# Altium footprint library IPC-7355 QFP_Shrink_Rect_40P_Side_L.PcbLib: 12 footprints
Each footprint in its own frame and in the unit in brackets; x right, y up, seen from the top. Pads: shape width x height; smd on the part's side, far side on the other; paste and mask are expansions set on the pad; w line width, h text height; cw(c..) or ccw(c..) is an arc to the next point about the centre after c.
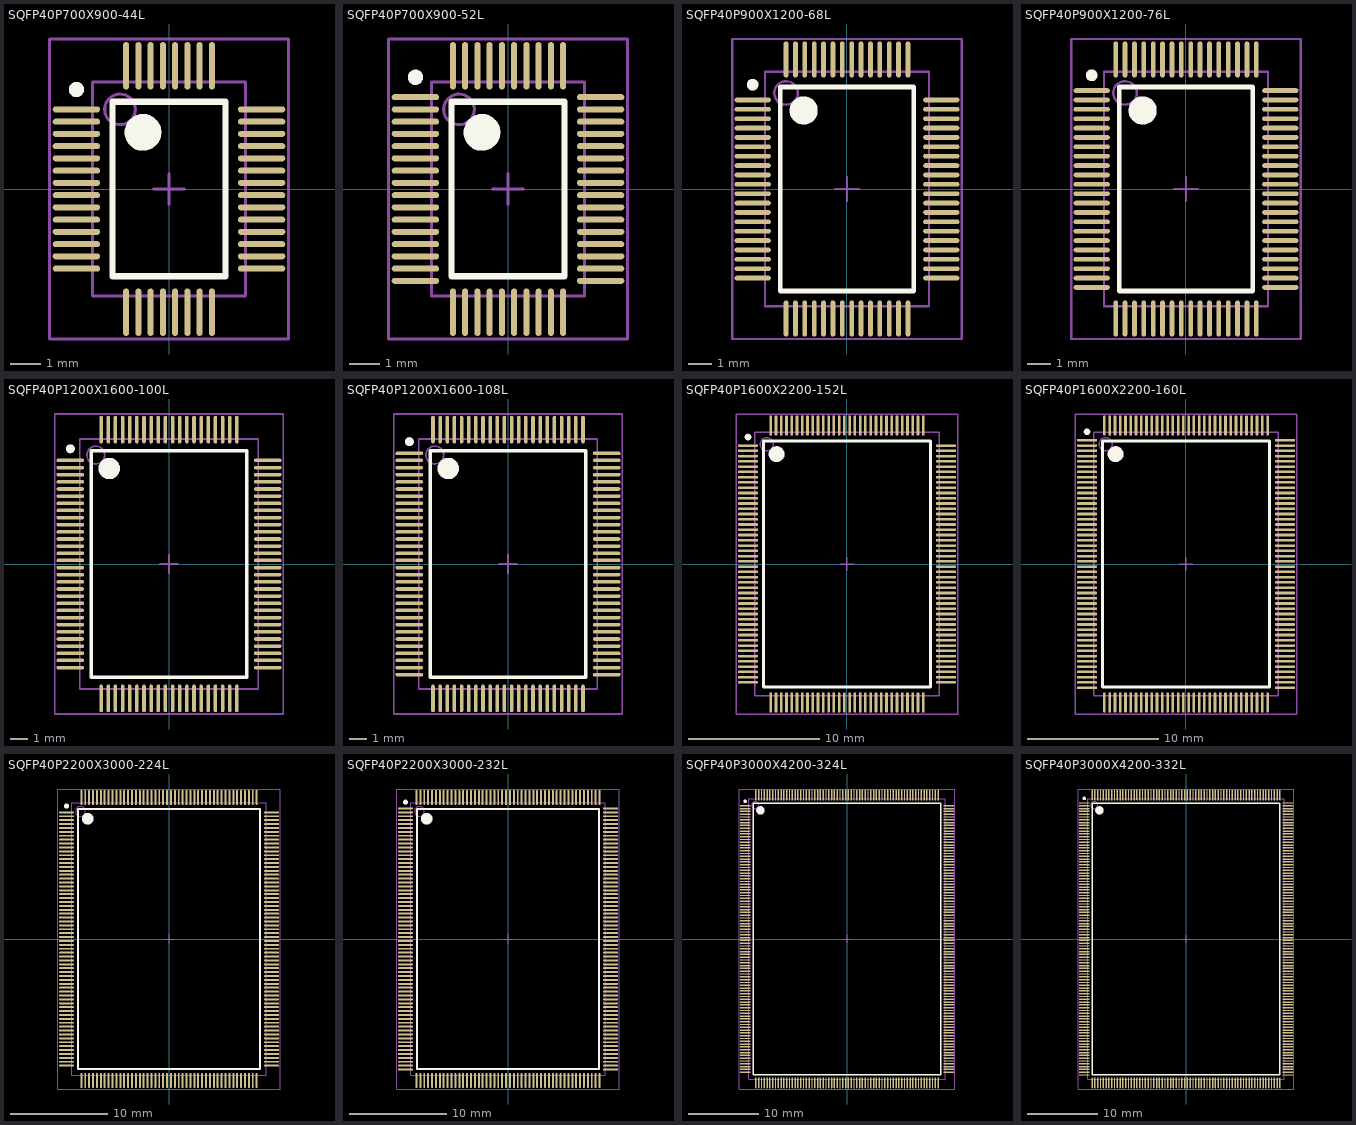
[diagram p0: the footprints below, top view; thin cyan lines are the x and y axes]

## SQFP40P700X900-44L [mm] "Shrink QFP, 44-Leads, Body 7x5 mm, Pitch 0.4mm, IPC High Density"
height 1.7
pads (44):
  oval 1.55x0.2 smd: 1(-3.025,2.6) 2(-3.025,2.2) 3(-3.025,1.8) 4(-3.025,1.4) 5(-3.025,1) 6(-3.025,0.6) 7(-3.025,0.2) 8(-3.025,-0.2) 9(-3.025,-0.6) 10(-3.025,-1) 11(-3.025,-1.4) 12(-3.025,-1.8) 13(-3.025,-2.2) 14(-3.025,-2.6) 23(3.025,-2.6) 24(3.025,-2.2) 25(3.025,-1.8) 26(3.025,-1.4) 27(3.025,-1) 28(3.025,-0.6) 29(3.025,-0.2) 30(3.025,0.2) 31(3.025,0.6) 32(3.025,1) 33(3.025,1.4) 34(3.025,1.8) 35(3.025,2.2) 36(3.025,2.6)
  oval 0.2x1.55 smd: 15(-1.4,-4.025) 16(-1,-4.025) 17(-0.6,-4.025) 18(-0.2,-4.025) 19(0.2,-4.025) 20(0.6,-4.025) 21(1,-4.025) 22(1.4,-4.025) 37(1.4,4.025) 38(1,4.025) 39(0.6,4.025) 40(0.2,4.025) 41(-0.2,4.025) 42(-0.6,4.025) 43(-1,4.025) 44(-1.4,4.025)
Top Overlay:
  circle w0.6: c-0.85,1.85 r0.3
  circle w0.25: c-3.025,3.25 r0.125
  lines w0.2: -1.85,-2.85 1.85,-2.85 1.85,2.85 -1.85,2.85 -1.85,-2.85
Mechanical 13:
  circle w0.1: c-1.6,2.6 r0.5
  lines w0.1: -2.5,-3.5 2.5,-3.5 2.5,3.5 -2.5,3.5 -2.5,-3.5
Mechanical 15:
  lines w0.1: -0.5,0 0.5,0 ; 0,-0.5 0,0.5 ; -3.9,-4.9 3.9,-4.9 3.9,4.9 -3.9,4.9 -3.9,-4.9
3D body: height 1.7, standoff 0, extent -2.5,-3.5 2.5,3.5

## SQFP40P700X900-52L [mm] "Shrink QFP, 52-Leads, Body 7x5 mm, Pitch 0.4mm, IPC High Density"
height 1.7
pads (52):
  oval 1.55x0.2 smd: 1(-3.025,3) 2(-3.025,2.6) 3(-3.025,2.2) 4(-3.025,1.8) 5(-3.025,1.4) 6(-3.025,1) 7(-3.025,0.6) 8(-3.025,0.2) 9(-3.025,-0.2) 10(-3.025,-0.6) 11(-3.025,-1) 12(-3.025,-1.4) 13(-3.025,-1.8) 14(-3.025,-2.2) 15(-3.025,-2.6) 16(-3.025,-3) 27(3.025,-3) 28(3.025,-2.6) 29(3.025,-2.2) 30(3.025,-1.8) 31(3.025,-1.4) 32(3.025,-1) 33(3.025,-0.6) 34(3.025,-0.2) 35(3.025,0.2) 36(3.025,0.6) 37(3.025,1) 38(3.025,1.4) 39(3.025,1.8) 40(3.025,2.2) 41(3.025,2.6) 42(3.025,3)
  oval 0.2x1.55 smd: 17(-1.8,-4.025) 18(-1.4,-4.025) 19(-1,-4.025) 20(-0.6,-4.025) 21(-0.2,-4.025) 22(0.2,-4.025) 23(0.6,-4.025) 24(1,-4.025) 25(1.4,-4.025) 26(1.8,-4.025) 43(1.8,4.025) 44(1.4,4.025) 45(1,4.025) 46(0.6,4.025) 47(0.2,4.025) 48(-0.2,4.025) 49(-0.6,4.025) 50(-1,4.025) 51(-1.4,4.025) 52(-1.8,4.025)
Top Overlay:
  circle w0.6: c-0.85,1.85 r0.3
  circle w0.25: c-3.025,3.65 r0.125
  lines w0.2: -1.85,-2.85 1.85,-2.85 1.85,2.85 -1.85,2.85 -1.85,-2.85
Mechanical 13:
  circle w0.1: c-1.6,2.6 r0.5
  lines w0.1: -2.5,-3.5 2.5,-3.5 2.5,3.5 -2.5,3.5 -2.5,-3.5
Mechanical 15:
  lines w0.1: -0.5,0 0.5,0 ; 0,-0.5 0,0.5 ; -3.9,-4.9 3.9,-4.9 3.9,4.9 -3.9,4.9 -3.9,-4.9
3D body: height 1.7, standoff 0, extent -2.5,-3.5 2.5,3.5

## SQFP40P900X1200-68L [mm] "Shrink QFP, 68-Leads, Body 10x7 mm, Pitch 0.4mm, IPC High Density"
height 2.2
pads (68):
  oval 1.55x0.2 smd: 1(-4.025,3.8) 2(-4.025,3.4) 3(-4.025,3) 4(-4.025,2.6) 5(-4.025,2.2) 6(-4.025,1.8) 7(-4.025,1.4) 8(-4.025,1) 9(-4.025,0.6) 10(-4.025,0.2) 11(-4.025,-0.2) 12(-4.025,-0.6) 13(-4.025,-1) 14(-4.025,-1.4) 15(-4.025,-1.8) 16(-4.025,-2.2) 17(-4.025,-2.6) 18(-4.025,-3) 19(-4.025,-3.4) 20(-4.025,-3.8) 35(4.025,-3.8) 36(4.025,-3.4) 37(4.025,-3) 38(4.025,-2.6) 39(4.025,-2.2) 40(4.025,-1.8) 41(4.025,-1.4) 42(4.025,-1) 43(4.025,-0.6) 44(4.025,-0.2) 45(4.025,0.2) 46(4.025,0.6) 47(4.025,1) 48(4.025,1.4) 49(4.025,1.8) 50(4.025,2.2) 51(4.025,2.6) 52(4.025,3) 53(4.025,3.4) 54(4.025,3.8)
  oval 0.2x1.55 smd: 21(-2.6,-5.525) 22(-2.2,-5.525) 23(-1.8,-5.525) 24(-1.4,-5.525) 25(-1,-5.525) 26(-0.6,-5.525) 27(-0.2,-5.525) 28(0.2,-5.525) 29(0.6,-5.525) 30(1,-5.525) 31(1.4,-5.525) 32(1.8,-5.525) 33(2.2,-5.525) 34(2.6,-5.525) 55(2.6,5.525) 56(2.2,5.525) 57(1.8,5.525) 58(1.4,5.525) 59(1,5.525) 60(0.6,5.525) 61(0.2,5.525) 62(-0.2,5.525) 63(-0.6,5.525) 64(-1,5.525) 65(-1.4,5.525) 66(-1.8,5.525) 67(-2.2,5.525) 68(-2.6,5.525)
Top Overlay:
  circle w0.6: c-1.85,3.35 r0.3
  circle w0.25: c-4.025,4.45 r0.125
  lines w0.2: -2.85,-4.35 2.85,-4.35 2.85,4.35 -2.85,4.35 -2.85,-4.35
Mechanical 13:
  circle w0.1: c-2.6,4.1 r0.5
  lines w0.1: -3.5,-5 3.5,-5 3.5,5 -3.5,5 -3.5,-5
Mechanical 15:
  lines w0.1: -0.5,0 0.5,0 ; 0,-0.5 0,0.5 ; -4.9,-6.4 4.9,-6.4 4.9,6.4 -4.9,6.4 -4.9,-6.4
3D body: height 2.2, standoff 0, extent -3.5,-5 3.5,5

## SQFP40P900X1200-76L [mm] "Shrink QFP, 76-Leads, Body 10x7 mm, Pitch 0.4mm, IPC High Density"
height 2.2
pads (76):
  oval 1.55x0.2 smd: 1(-4.025,4.2) 2(-4.025,3.8) 3(-4.025,3.4) 4(-4.025,3) 5(-4.025,2.6) 6(-4.025,2.2) 7(-4.025,1.8) 8(-4.025,1.4) 9(-4.025,1) 10(-4.025,0.6) 11(-4.025,0.2) 12(-4.025,-0.2) 13(-4.025,-0.6) 14(-4.025,-1) 15(-4.025,-1.4) 16(-4.025,-1.8) 17(-4.025,-2.2) 18(-4.025,-2.6) 19(-4.025,-3) 20(-4.025,-3.4) 21(-4.025,-3.8) 22(-4.025,-4.2) 39(4.025,-4.2) 40(4.025,-3.8) 41(4.025,-3.4) 42(4.025,-3) 43(4.025,-2.6) 44(4.025,-2.2) 45(4.025,-1.8) 46(4.025,-1.4) 47(4.025,-1) 48(4.025,-0.6) 49(4.025,-0.2) 50(4.025,0.2) 51(4.025,0.6) 52(4.025,1) 53(4.025,1.4) 54(4.025,1.8) 55(4.025,2.2) 56(4.025,2.6) 57(4.025,3) 58(4.025,3.4) 59(4.025,3.8) 60(4.025,4.2)
  oval 0.2x1.55 smd: 23(-3,-5.525) 24(-2.6,-5.525) 25(-2.2,-5.525) 26(-1.8,-5.525) 27(-1.4,-5.525) 28(-1,-5.525) 29(-0.6,-5.525) 30(-0.2,-5.525) 31(0.2,-5.525) 32(0.6,-5.525) 33(1,-5.525) 34(1.4,-5.525) 35(1.8,-5.525) 36(2.2,-5.525) 37(2.6,-5.525) 38(3,-5.525) 61(3,5.525) 62(2.6,5.525) 63(2.2,5.525) 64(1.8,5.525) 65(1.4,5.525) 66(1,5.525) 67(0.6,5.525) 68(0.2,5.525) 69(-0.2,5.525) 70(-0.6,5.525) 71(-1,5.525) 72(-1.4,5.525) 73(-1.8,5.525) 74(-2.2,5.525) 75(-2.6,5.525) 76(-3,5.525)
Top Overlay:
  circle w0.6: c-1.85,3.35 r0.3
  circle w0.25: c-4.025,4.85 r0.125
  lines w0.2: -2.85,-4.35 2.85,-4.35 2.85,4.35 -2.85,4.35 -2.85,-4.35
Mechanical 13:
  circle w0.1: c-2.6,4.1 r0.5
  lines w0.1: -3.5,-5 3.5,-5 3.5,5 -3.5,5 -3.5,-5
Mechanical 15:
  lines w0.1: -0.5,0 0.5,0 ; 0,-0.5 0,0.5 ; -4.9,-6.4 4.9,-6.4 4.9,6.4 -4.9,6.4 -4.9,-6.4
3D body: height 2.2, standoff 0, extent -3.5,-5 3.5,5

## SQFP40P1200X1600-100L [mm] "Shrink QFP, 100-Leads, Body 14x10 mm, Pitch 0.4mm, IPC High Density"
height 2.2
pads (100):
  oval 1.55x0.2 smd: 1(-5.525,5.8) 2(-5.525,5.4) 3(-5.525,5) 4(-5.525,4.6) 5(-5.525,4.2) 6(-5.525,3.8) 7(-5.525,3.4) 8(-5.525,3) 9(-5.525,2.6) 10(-5.525,2.2) 11(-5.525,1.8) 12(-5.525,1.4) 13(-5.525,1) 14(-5.525,0.6) 15(-5.525,0.2) 16(-5.525,-0.2) 17(-5.525,-0.6) 18(-5.525,-1) 19(-5.525,-1.4) 20(-5.525,-1.8) 21(-5.525,-2.2) 22(-5.525,-2.6) 23(-5.525,-3) 24(-5.525,-3.4) 25(-5.525,-3.8) 26(-5.525,-4.2) 27(-5.525,-4.6) 28(-5.525,-5) 29(-5.525,-5.4) 30(-5.525,-5.8) 51(5.525,-5.8) 52(5.525,-5.4) 53(5.525,-5) 54(5.525,-4.6) 55(5.525,-4.2) 56(5.525,-3.8) 57(5.525,-3.4) 58(5.525,-3) 59(5.525,-2.6) 60(5.525,-2.2) 61(5.525,-1.8) 62(5.525,-1.4) 63(5.525,-1) 64(5.525,-0.6) 65(5.525,-0.2) 66(5.525,0.2) 67(5.525,0.6) 68(5.525,1) 69(5.525,1.4) 70(5.525,1.8) 71(5.525,2.2) 72(5.525,2.6) 73(5.525,3) 74(5.525,3.4) 75(5.525,3.8) 76(5.525,4.2) 77(5.525,4.6) 78(5.525,5) 79(5.525,5.4) 80(5.525,5.8)
  oval 0.2x1.55 smd: 31(-3.8,-7.525) 32(-3.4,-7.525) 33(-3,-7.525) 34(-2.6,-7.525) 35(-2.2,-7.525) 36(-1.8,-7.525) 37(-1.4,-7.525) 38(-1,-7.525) 39(-0.6,-7.525) 40(-0.2,-7.525) 41(0.2,-7.525) 42(0.6,-7.525) 43(1,-7.525) 44(1.4,-7.525) 45(1.8,-7.525) 46(2.2,-7.525) 47(2.6,-7.525) 48(3,-7.525) 49(3.4,-7.525) 50(3.8,-7.525) 81(3.8,7.525) 82(3.4,7.525) 83(3,7.525) 84(2.6,7.525) 85(2.2,7.525) 86(1.8,7.525) 87(1.4,7.525) 88(1,7.525) 89(0.6,7.525) 90(0.2,7.525) 91(-0.2,7.525) 92(-0.6,7.525) 93(-1,7.525) 94(-1.4,7.525) 95(-1.8,7.525) 96(-2.2,7.525) 97(-2.6,7.525) 98(-3,7.525) 99(-3.4,7.525) 100(-3.8,7.525)
Top Overlay:
  circle w0.6: c-3.35,5.35 r0.3
  circle w0.25: c-5.525,6.45 r0.125
  lines w0.2: -4.35,-6.35 4.35,-6.35 4.35,6.35 -4.35,6.35 -4.35,-6.35
Mechanical 13:
  circle w0.1: c-4.1,6.1 r0.5
  lines w0.1: -5,-7 5,-7 5,7 -5,7 -5,-7
Mechanical 15:
  lines w0.1: -0.5,0 0.5,0 ; 0,-0.5 0,0.5 ; -6.4,-8.4 6.4,-8.4 6.4,8.4 -6.4,8.4 -6.4,-8.4
3D body: height 2.2, standoff 0, extent -5,-7 5,7

## SQFP40P1200X1600-108L [mm] "Shrink QFP, 108-Leads, Body 14x10 mm, Pitch 0.4mm, IPC High Density"
height 2.2
pads (108):
  oval 1.55x0.2 smd: 1(-5.525,6.2) 2(-5.525,5.8) 3(-5.525,5.4) 4(-5.525,5) 5(-5.525,4.6) 6(-5.525,4.2) 7(-5.525,3.8) 8(-5.525,3.4) 9(-5.525,3) 10(-5.525,2.6) 11(-5.525,2.2) 12(-5.525,1.8) 13(-5.525,1.4) 14(-5.525,1) 15(-5.525,0.6) 16(-5.525,0.2) 17(-5.525,-0.2) 18(-5.525,-0.6) 19(-5.525,-1) 20(-5.525,-1.4) 21(-5.525,-1.8) 22(-5.525,-2.2) 23(-5.525,-2.6) 24(-5.525,-3) 25(-5.525,-3.4) 26(-5.525,-3.8) 27(-5.525,-4.2) 28(-5.525,-4.6) 29(-5.525,-5) 30(-5.525,-5.4) 31(-5.525,-5.8) 32(-5.525,-6.2) 55(5.525,-6.2) 56(5.525,-5.8) 57(5.525,-5.4) 58(5.525,-5) 59(5.525,-4.6) 60(5.525,-4.2) 61(5.525,-3.8) 62(5.525,-3.4) 63(5.525,-3) 64(5.525,-2.6) 65(5.525,-2.2) 66(5.525,-1.8) 67(5.525,-1.4) 68(5.525,-1) 69(5.525,-0.6) 70(5.525,-0.2) 71(5.525,0.2) 72(5.525,0.6) 73(5.525,1) 74(5.525,1.4) 75(5.525,1.8) 76(5.525,2.2) 77(5.525,2.6) 78(5.525,3) 79(5.525,3.4) 80(5.525,3.8) 81(5.525,4.2) 82(5.525,4.6) 83(5.525,5) 84(5.525,5.4) 85(5.525,5.8) 86(5.525,6.2)
  oval 0.2x1.55 smd: 33(-4.2,-7.525) 34(-3.8,-7.525) 35(-3.4,-7.525) 36(-3,-7.525) 37(-2.6,-7.525) 38(-2.2,-7.525) 39(-1.8,-7.525) 40(-1.4,-7.525) 41(-1,-7.525) 42(-0.6,-7.525) 43(-0.2,-7.525) 44(0.2,-7.525) 45(0.6,-7.525) 46(1,-7.525) 47(1.4,-7.525) 48(1.8,-7.525) 49(2.2,-7.525) 50(2.6,-7.525) 51(3,-7.525) 52(3.4,-7.525) 53(3.8,-7.525) 54(4.2,-7.525) 87(4.2,7.525) 88(3.8,7.525) 89(3.4,7.525) 90(3,7.525) 91(2.6,7.525) 92(2.2,7.525) 93(1.8,7.525) 94(1.4,7.525) 95(1,7.525) 96(0.6,7.525) 97(0.2,7.525) 98(-0.2,7.525) 99(-0.6,7.525) 100(-1,7.525) 101(-1.4,7.525) 102(-1.8,7.525) 103(-2.2,7.525) 104(-2.6,7.525) 105(-3,7.525) 106(-3.4,7.525) 107(-3.8,7.525) 108(-4.2,7.525)
Top Overlay:
  circle w0.6: c-3.35,5.35 r0.3
  circle w0.25: c-5.525,6.85 r0.125
  lines w0.2: -4.35,-6.35 4.35,-6.35 4.35,6.35 -4.35,6.35 -4.35,-6.35
Mechanical 13:
  circle w0.1: c-4.1,6.1 r0.5
  lines w0.1: -5,-7 5,-7 5,7 -5,7 -5,-7
Mechanical 15:
  lines w0.1: -0.5,0 0.5,0 ; 0,-0.5 0,0.5 ; -6.4,-8.4 6.4,-8.4 6.4,8.4 -6.4,8.4 -6.4,-8.4
3D body: height 2.2, standoff 0, extent -5,-7 5,7

## SQFP40P1600X2200-152L [mm] "Shrink QFP, 152-Leads, Body 20x14 mm, Pitch 0.4mm, IPC High Density"
height 2.2
pads (152):
  oval 1.55x0.2 smd: 1(-7.525,9) 2(-7.525,8.6) 3(-7.525,8.2) 4(-7.525,7.8) 5(-7.525,7.4) 6(-7.525,7) 7(-7.525,6.6) 8(-7.525,6.2) 9(-7.525,5.8) 10(-7.525,5.4) 11(-7.525,5) 12(-7.525,4.6) 13(-7.525,4.2) 14(-7.525,3.8) 15(-7.525,3.4) 16(-7.525,3) 17(-7.525,2.6) 18(-7.525,2.2) 19(-7.525,1.8) 20(-7.525,1.4) 21(-7.525,1) 22(-7.525,0.6) 23(-7.525,0.2) 24(-7.525,-0.2) 25(-7.525,-0.6) 26(-7.525,-1) 27(-7.525,-1.4) 28(-7.525,-1.8) 29(-7.525,-2.2) 30(-7.525,-2.6) 31(-7.525,-3) 32(-7.525,-3.4) 33(-7.525,-3.8) 34(-7.525,-4.2) 35(-7.525,-4.6) 36(-7.525,-5) 37(-7.525,-5.4) 38(-7.525,-5.8) 39(-7.525,-6.2) 40(-7.525,-6.6) 41(-7.525,-7) 42(-7.525,-7.4) 43(-7.525,-7.8) 44(-7.525,-8.2) 45(-7.525,-8.6) 46(-7.525,-9) 77(7.525,-9) 78(7.525,-8.6) 79(7.525,-8.2) 80(7.525,-7.8) 81(7.525,-7.4) 82(7.525,-7) 83(7.525,-6.6) 84(7.525,-6.2) 85(7.525,-5.8) 86(7.525,-5.4) 87(7.525,-5) 88(7.525,-4.6) 89(7.525,-4.2) 90(7.525,-3.8) 91(7.525,-3.4) 92(7.525,-3) 93(7.525,-2.6) 94(7.525,-2.2) 95(7.525,-1.8) 96(7.525,-1.4) 97(7.525,-1) 98(7.525,-0.6) 99(7.525,-0.2) 100(7.525,0.2) 101(7.525,0.6) 102(7.525,1) 103(7.525,1.4) 104(7.525,1.8) 105(7.525,2.2) 106(7.525,2.6) 107(7.525,3) 108(7.525,3.4) 109(7.525,3.8) 110(7.525,4.2) 111(7.525,4.6) 112(7.525,5) 113(7.525,5.4) 114(7.525,5.8) 115(7.525,6.2) 116(7.525,6.6) 117(7.525,7) 118(7.525,7.4) 119(7.525,7.8) 120(7.525,8.2) 121(7.525,8.6) 122(7.525,9)
  oval 0.2x1.55 smd: 47(-5.8,-10.525) 48(-5.4,-10.525) 49(-5,-10.525) 50(-4.6,-10.525) 51(-4.2,-10.525) 52(-3.8,-10.525) 53(-3.4,-10.525) 54(-3,-10.525) 55(-2.6,-10.525) 56(-2.2,-10.525) 57(-1.8,-10.525) 58(-1.4,-10.525) 59(-1,-10.525) 60(-0.6,-10.525) 61(-0.2,-10.525) 62(0.2,-10.525) 63(0.6,-10.525) 64(1,-10.525) 65(1.4,-10.525) 66(1.8,-10.525) 67(2.2,-10.525) 68(2.6,-10.525) 69(3,-10.525) 70(3.4,-10.525) 71(3.8,-10.525) 72(4.2,-10.525) 73(4.6,-10.525) 74(5,-10.525) 75(5.4,-10.525) 76(5.8,-10.525) 123(5.8,10.525) 124(5.4,10.525) 125(5,10.525) 126(4.6,10.525) 127(4.2,10.525) 128(3.8,10.525) 129(3.4,10.525) 130(3,10.525) 131(2.6,10.525) 132(2.2,10.525) 133(1.8,10.525) 134(1.4,10.525) 135(1,10.525) 136(0.6,10.525) 137(0.2,10.525) 138(-0.2,10.525) 139(-0.6,10.525) 140(-1,10.525) 141(-1.4,10.525) 142(-1.8,10.525) 143(-2.2,10.525) 144(-2.6,10.525) 145(-3,10.525) 146(-3.4,10.525) 147(-3.8,10.525) 148(-4.2,10.525) 149(-4.6,10.525) 150(-5,10.525) 151(-5.4,10.525) 152(-5.8,10.525)
Top Overlay:
  circle w0.6: c-5.35,8.35 r0.3
  circle w0.25: c-7.525,9.65 r0.125
  lines w0.2: -6.35,-9.35 6.35,-9.35 6.35,9.35 -6.35,9.35 -6.35,-9.35
Mechanical 13:
  circle w0.1: c-6.1,9.1 r0.5
  lines w0.1: -7,-10 7,-10 7,10 -7,10 -7,-10
Mechanical 15:
  lines w0.1: -0.5,0 0.5,0 ; 0,-0.5 0,0.5 ; -8.4,-11.4 8.4,-11.4 8.4,11.4 -8.4,11.4 -8.4,-11.4
3D body: height 2.2, standoff 0, extent -7,-10 7,10

## SQFP40P1600X2200-160L [mm] "Shrink QFP, 160-Leads, Body 20x14 mm, Pitch 0.4mm, IPC High Density"
height 2.2
pads (160):
  oval 1.55x0.2 smd: 1(-7.525,9.4) 2(-7.525,9) 3(-7.525,8.6) 4(-7.525,8.2) 5(-7.525,7.8) 6(-7.525,7.4) 7(-7.525,7) 8(-7.525,6.6) 9(-7.525,6.2) 10(-7.525,5.8) 11(-7.525,5.4) 12(-7.525,5) 13(-7.525,4.6) 14(-7.525,4.2) 15(-7.525,3.8) 16(-7.525,3.4) 17(-7.525,3) 18(-7.525,2.6) 19(-7.525,2.2) 20(-7.525,1.8) 21(-7.525,1.4) 22(-7.525,1) 23(-7.525,0.6) 24(-7.525,0.2) 25(-7.525,-0.2) 26(-7.525,-0.6) 27(-7.525,-1) 28(-7.525,-1.4) 29(-7.525,-1.8) 30(-7.525,-2.2) 31(-7.525,-2.6) 32(-7.525,-3) 33(-7.525,-3.4) 34(-7.525,-3.8) 35(-7.525,-4.2) 36(-7.525,-4.6) 37(-7.525,-5) 38(-7.525,-5.4) 39(-7.525,-5.8) 40(-7.525,-6.2) 41(-7.525,-6.6) 42(-7.525,-7) 43(-7.525,-7.4) 44(-7.525,-7.8) 45(-7.525,-8.2) 46(-7.525,-8.6) 47(-7.525,-9) 48(-7.525,-9.4) 81(7.525,-9.4) 82(7.525,-9) 83(7.525,-8.6) 84(7.525,-8.2) 85(7.525,-7.8) 86(7.525,-7.4) 87(7.525,-7) 88(7.525,-6.6) 89(7.525,-6.2) 90(7.525,-5.8) 91(7.525,-5.4) 92(7.525,-5) 93(7.525,-4.6) 94(7.525,-4.2) 95(7.525,-3.8) 96(7.525,-3.4) 97(7.525,-3) 98(7.525,-2.6) 99(7.525,-2.2) 100(7.525,-1.8) 101(7.525,-1.4) 102(7.525,-1) 103(7.525,-0.6) 104(7.525,-0.2) 105(7.525,0.2) 106(7.525,0.6) 107(7.525,1) 108(7.525,1.4) 109(7.525,1.8) 110(7.525,2.2) 111(7.525,2.6) 112(7.525,3) 113(7.525,3.4) 114(7.525,3.8) 115(7.525,4.2) 116(7.525,4.6) 117(7.525,5) 118(7.525,5.4) 119(7.525,5.8) 120(7.525,6.2) 121(7.525,6.6) 122(7.525,7) 123(7.525,7.4) 124(7.525,7.8) 125(7.525,8.2) 126(7.525,8.6) 127(7.525,9) 128(7.525,9.4)
  oval 0.2x1.55 smd: 49(-6.2,-10.525) 50(-5.8,-10.525) 51(-5.4,-10.525) 52(-5,-10.525) 53(-4.6,-10.525) 54(-4.2,-10.525) 55(-3.8,-10.525) 56(-3.4,-10.525) 57(-3,-10.525) 58(-2.6,-10.525) 59(-2.2,-10.525) 60(-1.8,-10.525) 61(-1.4,-10.525) 62(-1,-10.525) 63(-0.6,-10.525) 64(-0.2,-10.525) 65(0.2,-10.525) 66(0.6,-10.525) 67(1,-10.525) 68(1.4,-10.525) 69(1.8,-10.525) 70(2.2,-10.525) 71(2.6,-10.525) 72(3,-10.525) 73(3.4,-10.525) 74(3.8,-10.525) 75(4.2,-10.525) 76(4.6,-10.525) 77(5,-10.525) 78(5.4,-10.525) 79(5.8,-10.525) 80(6.2,-10.525) 129(6.2,10.525) 130(5.8,10.525) 131(5.4,10.525) 132(5,10.525) 133(4.6,10.525) 134(4.2,10.525) 135(3.8,10.525) 136(3.4,10.525) 137(3,10.525) 138(2.6,10.525) 139(2.2,10.525) 140(1.8,10.525) 141(1.4,10.525) 142(1,10.525) 143(0.6,10.525) 144(0.2,10.525) 145(-0.2,10.525) 146(-0.6,10.525) 147(-1,10.525) 148(-1.4,10.525) 149(-1.8,10.525) 150(-2.2,10.525) 151(-2.6,10.525) 152(-3,10.525) 153(-3.4,10.525) 154(-3.8,10.525) 155(-4.2,10.525) 156(-4.6,10.525) 157(-5,10.525) 158(-5.4,10.525) 159(-5.8,10.525) 160(-6.2,10.525)
Top Overlay:
  circle w0.6: c-5.35,8.35 r0.3
  circle w0.25: c-7.525,10.05 r0.125
  lines w0.2: -6.35,-9.35 6.35,-9.35 6.35,9.35 -6.35,9.35 -6.35,-9.35
Mechanical 13:
  circle w0.1: c-6.1,9.1 r0.5
  lines w0.1: -7,-10 7,-10 7,10 -7,10 -7,-10
Mechanical 15:
  lines w0.1: -0.5,0 0.5,0 ; 0,-0.5 0,0.5 ; -8.4,-11.4 8.4,-11.4 8.4,11.4 -8.4,11.4 -8.4,-11.4
3D body: height 2.2, standoff 0, extent -7,-10 7,10

## SQFP40P2200X3000-224L [mm] "Shrink QFP, 224-Leads, Body 28x20 mm, Pitch 0.4mm, IPC High Density"
height 3.75
pads (224):
  oval 1.55x0.2 smd: 1(-10.525,13) 2(-10.525,12.6) 3(-10.525,12.2) 4(-10.525,11.8) 5(-10.525,11.4) 6(-10.525,11) 7(-10.525,10.6) 8(-10.525,10.2) 9(-10.525,9.8) 10(-10.525,9.4) 11(-10.525,9) 12(-10.525,8.6) 13(-10.525,8.2) 14(-10.525,7.8) 15(-10.525,7.4) 16(-10.525,7) 17(-10.525,6.6) 18(-10.525,6.2) 19(-10.525,5.8) 20(-10.525,5.4) 21(-10.525,5) 22(-10.525,4.6) 23(-10.525,4.2) 24(-10.525,3.8) 25(-10.525,3.4) 26(-10.525,3) 27(-10.525,2.6) 28(-10.525,2.2) 29(-10.525,1.8) 30(-10.525,1.4) 31(-10.525,1) 32(-10.525,0.6) 33(-10.525,0.2) 34(-10.525,-0.2) 35(-10.525,-0.6) 36(-10.525,-1) 37(-10.525,-1.4) 38(-10.525,-1.8) 39(-10.525,-2.2) 40(-10.525,-2.6) 41(-10.525,-3) 42(-10.525,-3.4) 43(-10.525,-3.8) 44(-10.525,-4.2) 45(-10.525,-4.6) 46(-10.525,-5) 47(-10.525,-5.4) 48(-10.525,-5.8) 49(-10.525,-6.2) 50(-10.525,-6.6) 51(-10.525,-7) 52(-10.525,-7.4) 53(-10.525,-7.8) 54(-10.525,-8.2) 55(-10.525,-8.6) 56(-10.525,-9) 57(-10.525,-9.4) 58(-10.525,-9.8) 59(-10.525,-10.2) 60(-10.525,-10.6) 61(-10.525,-11) 62(-10.525,-11.4) 63(-10.525,-11.8) 64(-10.525,-12.2) 65(-10.525,-12.6) 66(-10.525,-13) 113(10.525,-13) 114(10.525,-12.6) 115(10.525,-12.2) 116(10.525,-11.8) 117(10.525,-11.4) 118(10.525,-11) 119(10.525,-10.6) 120(10.525,-10.2) 121(10.525,-9.8) 122(10.525,-9.4) 123(10.525,-9) 124(10.525,-8.6) 125(10.525,-8.2) 126(10.525,-7.8) 127(10.525,-7.4) 128(10.525,-7) 129(10.525,-6.6) 130(10.525,-6.2) 131(10.525,-5.8) 132(10.525,-5.4) 133(10.525,-5) 134(10.525,-4.6) 135(10.525,-4.2) 136(10.525,-3.8) 137(10.525,-3.4) 138(10.525,-3) 139(10.525,-2.6) 140(10.525,-2.2) 141(10.525,-1.8) 142(10.525,-1.4) 143(10.525,-1) 144(10.525,-0.6) 145(10.525,-0.2) 146(10.525,0.2) 147(10.525,0.6) 148(10.525,1) 149(10.525,1.4) 150(10.525,1.8) 151(10.525,2.2) 152(10.525,2.6) 153(10.525,3) 154(10.525,3.4) 155(10.525,3.8) 156(10.525,4.2) 157(10.525,4.6) 158(10.525,5) 159(10.525,5.4) 160(10.525,5.8) 161(10.525,6.2) 162(10.525,6.6) 163(10.525,7) 164(10.525,7.4) 165(10.525,7.8) 166(10.525,8.2) 167(10.525,8.6) 168(10.525,9) 169(10.525,9.4) 170(10.525,9.8) 171(10.525,10.2) 172(10.525,10.6) 173(10.525,11) 174(10.525,11.4) 175(10.525,11.8) 176(10.525,12.2) 177(10.525,12.6) 178(10.525,13)
  oval 0.2x1.55 smd: 67(-9,-14.525) 68(-8.6,-14.525) 69(-8.2,-14.525) 70(-7.8,-14.525) 71(-7.4,-14.525) 72(-7,-14.525) 73(-6.6,-14.525) 74(-6.2,-14.525) 75(-5.8,-14.525) 76(-5.4,-14.525) 77(-5,-14.525) 78(-4.6,-14.525) 79(-4.2,-14.525) 80(-3.8,-14.525) 81(-3.4,-14.525) 82(-3,-14.525) 83(-2.6,-14.525) 84(-2.2,-14.525) 85(-1.8,-14.525) 86(-1.4,-14.525) 87(-1,-14.525) 88(-0.6,-14.525) 89(-0.2,-14.525) 90(0.2,-14.525) 91(0.6,-14.525) 92(1,-14.525) 93(1.4,-14.525) 94(1.8,-14.525) 95(2.2,-14.525) 96(2.6,-14.525) 97(3,-14.525) 98(3.4,-14.525) 99(3.8,-14.525) 100(4.2,-14.525) 101(4.6,-14.525) 102(5,-14.525) 103(5.4,-14.525) 104(5.8,-14.525) 105(6.2,-14.525) 106(6.6,-14.525) 107(7,-14.525) 108(7.4,-14.525) 109(7.8,-14.525) 110(8.2,-14.525) 111(8.6,-14.525) 112(9,-14.525) 179(9,14.525) 180(8.6,14.525) 181(8.2,14.525) 182(7.8,14.525) 183(7.4,14.525) 184(7,14.525) 185(6.6,14.525) 186(6.2,14.525) 187(5.8,14.525) 188(5.4,14.525) 189(5,14.525) 190(4.6,14.525) 191(4.2,14.525) 192(3.8,14.525) 193(3.4,14.525) 194(3,14.525) 195(2.6,14.525) 196(2.2,14.525) 197(1.8,14.525) 198(1.4,14.525) 199(1,14.525) 200(0.6,14.525) 201(0.2,14.525) 202(-0.2,14.525) 203(-0.6,14.525) 204(-1,14.525) 205(-1.4,14.525) 206(-1.8,14.525) 207(-2.2,14.525) 208(-2.6,14.525) 209(-3,14.525) 210(-3.4,14.525) 211(-3.8,14.525) 212(-4.2,14.525) 213(-4.6,14.525) 214(-5,14.525) 215(-5.4,14.525) 216(-5.8,14.525) 217(-6.2,14.525) 218(-6.6,14.525) 219(-7,14.525) 220(-7.4,14.525) 221(-7.8,14.525) 222(-8.2,14.525) 223(-8.6,14.525) 224(-9,14.525)
Top Overlay:
  circle w0.6: c-8.35,12.35 r0.3
  circle w0.25: c-10.525,13.65 r0.125
  lines w0.2: -9.35,-13.35 9.35,-13.35 9.35,13.35 -9.35,13.35 -9.35,-13.35
Mechanical 13:
  circle w0.1: c-9.1,13.1 r0.5
  lines w0.1: -10,-14 10,-14 10,14 -10,14 -10,-14
Mechanical 15:
  lines w0.1: -0.5,0 0.5,0 ; 0,-0.5 0,0.5 ; -11.4,-15.4 11.4,-15.4 11.4,15.4 -11.4,15.4 -11.4,-15.4
3D body: height 3.75, standoff 0, extent -10,-14 10,14

## SQFP40P2200X3000-232L [mm] "Shrink QFP, 232-Leads, Body 28x20 mm, Pitch 0.4mm, IPC High Density"
height 3.75
pads (232):
  oval 1.55x0.2 smd: 1(-10.525,13.4) 2(-10.525,13) 3(-10.525,12.6) 4(-10.525,12.2) 5(-10.525,11.8) 6(-10.525,11.4) 7(-10.525,11) 8(-10.525,10.6) 9(-10.525,10.2) 10(-10.525,9.8) 11(-10.525,9.4) 12(-10.525,9) 13(-10.525,8.6) 14(-10.525,8.2) 15(-10.525,7.8) 16(-10.525,7.4) 17(-10.525,7) 18(-10.525,6.6) 19(-10.525,6.2) 20(-10.525,5.8) 21(-10.525,5.4) 22(-10.525,5) 23(-10.525,4.6) 24(-10.525,4.2) 25(-10.525,3.8) 26(-10.525,3.4) 27(-10.525,3) 28(-10.525,2.6) 29(-10.525,2.2) 30(-10.525,1.8) 31(-10.525,1.4) 32(-10.525,1) 33(-10.525,0.6) 34(-10.525,0.2) 35(-10.525,-0.2) 36(-10.525,-0.6) 37(-10.525,-1) 38(-10.525,-1.4) 39(-10.525,-1.8) 40(-10.525,-2.2) 41(-10.525,-2.6) 42(-10.525,-3) 43(-10.525,-3.4) 44(-10.525,-3.8) 45(-10.525,-4.2) 46(-10.525,-4.6) 47(-10.525,-5) 48(-10.525,-5.4) 49(-10.525,-5.8) 50(-10.525,-6.2) 51(-10.525,-6.6) 52(-10.525,-7) 53(-10.525,-7.4) 54(-10.525,-7.8) 55(-10.525,-8.2) 56(-10.525,-8.6) 57(-10.525,-9) 58(-10.525,-9.4) 59(-10.525,-9.8) 60(-10.525,-10.2) 61(-10.525,-10.6) 62(-10.525,-11) 63(-10.525,-11.4) 64(-10.525,-11.8) 65(-10.525,-12.2) 66(-10.525,-12.6) 67(-10.525,-13) 68(-10.525,-13.4) 117(10.525,-13.4) 118(10.525,-13) 119(10.525,-12.6) 120(10.525,-12.2) 121(10.525,-11.8) 122(10.525,-11.4) 123(10.525,-11) 124(10.525,-10.6) 125(10.525,-10.2) 126(10.525,-9.8) 127(10.525,-9.4) 128(10.525,-9) 129(10.525,-8.6) 130(10.525,-8.2) 131(10.525,-7.8) 132(10.525,-7.4) 133(10.525,-7) 134(10.525,-6.6) 135(10.525,-6.2) 136(10.525,-5.8) 137(10.525,-5.4) 138(10.525,-5) 139(10.525,-4.6) 140(10.525,-4.2) 141(10.525,-3.8) 142(10.525,-3.4) 143(10.525,-3) 144(10.525,-2.6) 145(10.525,-2.2) 146(10.525,-1.8) 147(10.525,-1.4) 148(10.525,-1) 149(10.525,-0.6) 150(10.525,-0.2) 151(10.525,0.2) 152(10.525,0.6) 153(10.525,1) 154(10.525,1.4) 155(10.525,1.8) 156(10.525,2.2) 157(10.525,2.6) 158(10.525,3) 159(10.525,3.4) 160(10.525,3.8) 161(10.525,4.2) 162(10.525,4.6) 163(10.525,5) 164(10.525,5.4) 165(10.525,5.8) 166(10.525,6.2) 167(10.525,6.6) 168(10.525,7) 169(10.525,7.4) 170(10.525,7.8) 171(10.525,8.2) 172(10.525,8.6) 173(10.525,9) 174(10.525,9.4) 175(10.525,9.8) 176(10.525,10.2) 177(10.525,10.6) 178(10.525,11) 179(10.525,11.4) 180(10.525,11.8) 181(10.525,12.2) 182(10.525,12.6) 183(10.525,13) 184(10.525,13.4)
  oval 0.2x1.55 smd: 69(-9.4,-14.525) 70(-9,-14.525) 71(-8.6,-14.525) 72(-8.2,-14.525) 73(-7.8,-14.525) 74(-7.4,-14.525) 75(-7,-14.525) 76(-6.6,-14.525) 77(-6.2,-14.525) 78(-5.8,-14.525) 79(-5.4,-14.525) 80(-5,-14.525) 81(-4.6,-14.525) 82(-4.2,-14.525) 83(-3.8,-14.525) 84(-3.4,-14.525) 85(-3,-14.525) 86(-2.6,-14.525) 87(-2.2,-14.525) 88(-1.8,-14.525) 89(-1.4,-14.525) 90(-1,-14.525) 91(-0.6,-14.525) 92(-0.2,-14.525) 93(0.2,-14.525) 94(0.6,-14.525) 95(1,-14.525) 96(1.4,-14.525) 97(1.8,-14.525) 98(2.2,-14.525) 99(2.6,-14.525) 100(3,-14.525) 101(3.4,-14.525) 102(3.8,-14.525) 103(4.2,-14.525) 104(4.6,-14.525) 105(5,-14.525) 106(5.4,-14.525) 107(5.8,-14.525) 108(6.2,-14.525) 109(6.6,-14.525) 110(7,-14.525) 111(7.4,-14.525) 112(7.8,-14.525) 113(8.2,-14.525) 114(8.6,-14.525) 115(9,-14.525) 116(9.4,-14.525) 185(9.4,14.525) 186(9,14.525) 187(8.6,14.525) 188(8.2,14.525) 189(7.8,14.525) 190(7.4,14.525) 191(7,14.525) 192(6.6,14.525) 193(6.2,14.525) 194(5.8,14.525) 195(5.4,14.525) 196(5,14.525) 197(4.6,14.525) 198(4.2,14.525) 199(3.8,14.525) 200(3.4,14.525) 201(3,14.525) 202(2.6,14.525) 203(2.2,14.525) 204(1.8,14.525) 205(1.4,14.525) 206(1,14.525) 207(0.6,14.525) 208(0.2,14.525) 209(-0.2,14.525) 210(-0.6,14.525) 211(-1,14.525) 212(-1.4,14.525) 213(-1.8,14.525) 214(-2.2,14.525) 215(-2.6,14.525) 216(-3,14.525) 217(-3.4,14.525) 218(-3.8,14.525) 219(-4.2,14.525) 220(-4.6,14.525) 221(-5,14.525) 222(-5.4,14.525) 223(-5.8,14.525) 224(-6.2,14.525) 225(-6.6,14.525) 226(-7,14.525) 227(-7.4,14.525) 228(-7.8,14.525) 229(-8.2,14.525) 230(-8.6,14.525) 231(-9,14.525) 232(-9.4,14.525)
Top Overlay:
  circle w0.6: c-8.35,12.35 r0.3
  circle w0.25: c-10.525,14.05 r0.125
  lines w0.2: -9.35,-13.35 9.35,-13.35 9.35,13.35 -9.35,13.35 -9.35,-13.35
Mechanical 13:
  circle w0.1: c-9.1,13.1 r0.5
  lines w0.1: -10,-14 10,-14 10,14 -10,14 -10,-14
Mechanical 15:
  lines w0.1: -0.5,0 0.5,0 ; 0,-0.5 0,0.5 ; -11.4,-15.4 11.4,-15.4 11.4,15.4 -11.4,15.4 -11.4,-15.4
3D body: height 3.75, standoff 0, extent -10,-14 10,14

## SQFP40P3000X4200-324L [mm] "Shrink QFP, 324-Leads, Body 40x28 mm, Pitch 0.4mm, IPC High Density"
height 4.2
pads (324):
  oval 1.55x0.2 smd: 1(-14.525,19) 2(-14.525,18.6) 3(-14.525,18.2) 4(-14.525,17.8) 5(-14.525,17.4) 6(-14.525,17) 7(-14.525,16.6) 8(-14.525,16.2) 9(-14.525,15.8) 10(-14.525,15.4) 11(-14.525,15) 12(-14.525,14.6) 13(-14.525,14.2) 14(-14.525,13.8) 15(-14.525,13.4) 16(-14.525,13) 17(-14.525,12.6) 18(-14.525,12.2) 19(-14.525,11.8) 20(-14.525,11.4) 21(-14.525,11) 22(-14.525,10.6) 23(-14.525,10.2) 24(-14.525,9.8) 25(-14.525,9.4) 26(-14.525,9) 27(-14.525,8.6) 28(-14.525,8.2) 29(-14.525,7.8) 30(-14.525,7.4) 31(-14.525,7) 32(-14.525,6.6) 33(-14.525,6.2) 34(-14.525,5.8) 35(-14.525,5.4) 36(-14.525,5) 37(-14.525,4.6) 38(-14.525,4.2) 39(-14.525,3.8) 40(-14.525,3.4) 41(-14.525,3) 42(-14.525,2.6) 43(-14.525,2.2) 44(-14.525,1.8) 45(-14.525,1.4) 46(-14.525,1) 47(-14.525,0.6) 48(-14.525,0.2) 49(-14.525,-0.2) 50(-14.525,-0.6) 51(-14.525,-1) 52(-14.525,-1.4) 53(-14.525,-1.8) 54(-14.525,-2.2) 55(-14.525,-2.6) 56(-14.525,-3) 57(-14.525,-3.4) 58(-14.525,-3.8) 59(-14.525,-4.2) 60(-14.525,-4.6) 61(-14.525,-5) 62(-14.525,-5.4) 63(-14.525,-5.8) 64(-14.525,-6.2) 65(-14.525,-6.6) 66(-14.525,-7) 67(-14.525,-7.4) 68(-14.525,-7.8) 69(-14.525,-8.2) 70(-14.525,-8.6) 71(-14.525,-9) 72(-14.525,-9.4) 73(-14.525,-9.8) 74(-14.525,-10.2) 75(-14.525,-10.6) 76(-14.525,-11) 77(-14.525,-11.4) 78(-14.525,-11.8) 79(-14.525,-12.2) 80(-14.525,-12.6) 81(-14.525,-13) 82(-14.525,-13.4) 83(-14.525,-13.8) 84(-14.525,-14.2) 85(-14.525,-14.6) 86(-14.525,-15) 87(-14.525,-15.4) 88(-14.525,-15.8) 89(-14.525,-16.2) 90(-14.525,-16.6) 91(-14.525,-17) 92(-14.525,-17.4) 93(-14.525,-17.8) 94(-14.525,-18.2) 95(-14.525,-18.6) 96(-14.525,-19) 163(14.525,-19) 164(14.525,-18.6) 165(14.525,-18.2) 166(14.525,-17.8) 167(14.525,-17.4) 168(14.525,-17) 169(14.525,-16.6) 170(14.525,-16.2) 171(14.525,-15.8) 172(14.525,-15.4) 173(14.525,-15) 174(14.525,-14.6) 175(14.525,-14.2) 176(14.525,-13.8) 177(14.525,-13.4) 178(14.525,-13) 179(14.525,-12.6) 180(14.525,-12.2) 181(14.525,-11.8) 182(14.525,-11.4) 183(14.525,-11) 184(14.525,-10.6) 185(14.525,-10.2) 186(14.525,-9.8) 187(14.525,-9.4) 188(14.525,-9) 189(14.525,-8.6) 190(14.525,-8.2) 191(14.525,-7.8) 192(14.525,-7.4) 193(14.525,-7) 194(14.525,-6.6) 195(14.525,-6.2) 196(14.525,-5.8) 197(14.525,-5.4) 198(14.525,-5) 199(14.525,-4.6) 200(14.525,-4.2) 201(14.525,-3.8) 202(14.525,-3.4) 203(14.525,-3) 204(14.525,-2.6) 205(14.525,-2.2) 206(14.525,-1.8) 207(14.525,-1.4) 208(14.525,-1) 209(14.525,-0.6) 210(14.525,-0.2) 211(14.525,0.2) 212(14.525,0.6) 213(14.525,1) 214(14.525,1.4) 215(14.525,1.8) 216(14.525,2.2) 217(14.525,2.6) 218(14.525,3) 219(14.525,3.4) 220(14.525,3.8) 221(14.525,4.2) 222(14.525,4.6) 223(14.525,5) 224(14.525,5.4) 225(14.525,5.8) 226(14.525,6.2) 227(14.525,6.6) 228(14.525,7) 229(14.525,7.4) 230(14.525,7.8) 231(14.525,8.2) 232(14.525,8.6) 233(14.525,9) 234(14.525,9.4) 235(14.525,9.8) 236(14.525,10.2) 237(14.525,10.6) 238(14.525,11) 239(14.525,11.4) 240(14.525,11.8) 241(14.525,12.2) 242(14.525,12.6) 243(14.525,13) 244(14.525,13.4) 245(14.525,13.8) 246(14.525,14.2) 247(14.525,14.6) 248(14.525,15) 249(14.525,15.4) 250(14.525,15.8) 251(14.525,16.2) 252(14.525,16.6) 253(14.525,17) 254(14.525,17.4) 255(14.525,17.8) 256(14.525,18.2) 257(14.525,18.6) 258(14.525,19)
  oval 0.2x1.55 smd: 97(-13,-20.525) 98(-12.6,-20.525) 99(-12.2,-20.525) 100(-11.8,-20.525) 101(-11.4,-20.525) 102(-11,-20.525) 103(-10.6,-20.525) 104(-10.2,-20.525) 105(-9.8,-20.525) 106(-9.4,-20.525) 107(-9,-20.525) 108(-8.6,-20.525) 109(-8.2,-20.525) 110(-7.8,-20.525) 111(-7.4,-20.525) 112(-7,-20.525) 113(-6.6,-20.525) 114(-6.2,-20.525) 115(-5.8,-20.525) 116(-5.4,-20.525) 117(-5,-20.525) 118(-4.6,-20.525) 119(-4.2,-20.525) 120(-3.8,-20.525) 121(-3.4,-20.525) 122(-3,-20.525) 123(-2.6,-20.525) 124(-2.2,-20.525) 125(-1.8,-20.525) 126(-1.4,-20.525) 127(-1,-20.525) 128(-0.6,-20.525) 129(-0.2,-20.525) 130(0.2,-20.525) 131(0.6,-20.525) 132(1,-20.525) 133(1.4,-20.525) 134(1.8,-20.525) 135(2.2,-20.525) 136(2.6,-20.525) 137(3,-20.525) 138(3.4,-20.525) 139(3.8,-20.525) 140(4.2,-20.525) 141(4.6,-20.525) 142(5,-20.525) 143(5.4,-20.525) 144(5.8,-20.525) 145(6.2,-20.525) 146(6.6,-20.525) 147(7,-20.525) 148(7.4,-20.525) 149(7.8,-20.525) 150(8.2,-20.525) 151(8.6,-20.525) 152(9,-20.525) 153(9.4,-20.525) 154(9.8,-20.525) 155(10.2,-20.525) 156(10.6,-20.525) 157(11,-20.525) 158(11.4,-20.525) 159(11.8,-20.525) 160(12.2,-20.525) 161(12.6,-20.525) 162(13,-20.525) 259(13,20.525) 260(12.6,20.525) 261(12.2,20.525) 262(11.8,20.525) 263(11.4,20.525) 264(11,20.525) 265(10.6,20.525) 266(10.2,20.525) 267(9.8,20.525) 268(9.4,20.525) 269(9,20.525) 270(8.6,20.525) 271(8.2,20.525) 272(7.8,20.525) 273(7.4,20.525) 274(7,20.525) 275(6.6,20.525) 276(6.2,20.525) 277(5.8,20.525) 278(5.4,20.525) 279(5,20.525) 280(4.6,20.525) 281(4.2,20.525) 282(3.8,20.525) 283(3.4,20.525) 284(3,20.525) 285(2.6,20.525) 286(2.2,20.525) 287(1.8,20.525) 288(1.4,20.525) 289(1,20.525) 290(0.6,20.525) 291(0.2,20.525) 292(-0.2,20.525) 293(-0.6,20.525) 294(-1,20.525) 295(-1.4,20.525) 296(-1.8,20.525) 297(-2.2,20.525) 298(-2.6,20.525) 299(-3,20.525) 300(-3.4,20.525) 301(-3.8,20.525) 302(-4.2,20.525) 303(-4.6,20.525) 304(-5,20.525) 305(-5.4,20.525) 306(-5.8,20.525) 307(-6.2,20.525) 308(-6.6,20.525) 309(-7,20.525) 310(-7.4,20.525) 311(-7.8,20.525) 312(-8.2,20.525) 313(-8.6,20.525) 314(-9,20.525) 315(-9.4,20.525) 316(-9.8,20.525) 317(-10.2,20.525) 318(-10.6,20.525) 319(-11,20.525) 320(-11.4,20.525) 321(-11.8,20.525) 322(-12.2,20.525) 323(-12.6,20.525) 324(-13,20.525)
Top Overlay:
  circle w0.6: c-12.35,18.35 r0.3
  circle w0.25: c-14.525,19.65 r0.125
  lines w0.2: -13.35,-19.35 13.35,-19.35 13.35,19.35 -13.35,19.35 -13.35,-19.35
Mechanical 13:
  circle w0.1: c-13.1,19.1 r0.5
  lines w0.1: -14,-20 14,-20 14,20 -14,20 -14,-20
Mechanical 15:
  lines w0.1: -0.5,0 0.5,0 ; 0,-0.5 0,0.5 ; -15.4,-21.4 15.4,-21.4 15.4,21.4 -15.4,21.4 -15.4,-21.4
3D body: height 4.2, standoff 0, extent -14,-20 14,20

## SQFP40P3000X4200-332L [mm] "Shrink QFP, 332-Leads, Body 40x28 mm, Pitch 0.4mm, IPC High Density"
height 4.2
pads (332):
  oval 1.55x0.2 smd: 1(-14.525,19.4) 2(-14.525,19) 3(-14.525,18.6) 4(-14.525,18.2) 5(-14.525,17.8) 6(-14.525,17.4) 7(-14.525,17) 8(-14.525,16.6) 9(-14.525,16.2) 10(-14.525,15.8) 11(-14.525,15.4) 12(-14.525,15) 13(-14.525,14.6) 14(-14.525,14.2) 15(-14.525,13.8) 16(-14.525,13.4) 17(-14.525,13) 18(-14.525,12.6) 19(-14.525,12.2) 20(-14.525,11.8) 21(-14.525,11.4) 22(-14.525,11) 23(-14.525,10.6) 24(-14.525,10.2) 25(-14.525,9.8) 26(-14.525,9.4) 27(-14.525,9) 28(-14.525,8.6) 29(-14.525,8.2) 30(-14.525,7.8) 31(-14.525,7.4) 32(-14.525,7) 33(-14.525,6.6) 34(-14.525,6.2) 35(-14.525,5.8) 36(-14.525,5.4) 37(-14.525,5) 38(-14.525,4.6) 39(-14.525,4.2) 40(-14.525,3.8) 41(-14.525,3.4) 42(-14.525,3) 43(-14.525,2.6) 44(-14.525,2.2) 45(-14.525,1.8) 46(-14.525,1.4) 47(-14.525,1) 48(-14.525,0.6) 49(-14.525,0.2) 50(-14.525,-0.2) 51(-14.525,-0.6) 52(-14.525,-1) 53(-14.525,-1.4) 54(-14.525,-1.8) 55(-14.525,-2.2) 56(-14.525,-2.6) 57(-14.525,-3) 58(-14.525,-3.4) 59(-14.525,-3.8) 60(-14.525,-4.2) 61(-14.525,-4.6) 62(-14.525,-5) 63(-14.525,-5.4) 64(-14.525,-5.8) 65(-14.525,-6.2) 66(-14.525,-6.6) 67(-14.525,-7) 68(-14.525,-7.4) 69(-14.525,-7.8) 70(-14.525,-8.2) 71(-14.525,-8.6) 72(-14.525,-9) 73(-14.525,-9.4) 74(-14.525,-9.8) 75(-14.525,-10.2) 76(-14.525,-10.6) 77(-14.525,-11) 78(-14.525,-11.4) 79(-14.525,-11.8) 80(-14.525,-12.2) 81(-14.525,-12.6) 82(-14.525,-13) 83(-14.525,-13.4) 84(-14.525,-13.8) 85(-14.525,-14.2) 86(-14.525,-14.6) 87(-14.525,-15) 88(-14.525,-15.4) 89(-14.525,-15.8) 90(-14.525,-16.2) 91(-14.525,-16.6) 92(-14.525,-17) 93(-14.525,-17.4) 94(-14.525,-17.8) 95(-14.525,-18.2) 96(-14.525,-18.6) 97(-14.525,-19) 98(-14.525,-19.4) 167(14.525,-19.4) 168(14.525,-19) 169(14.525,-18.6) 170(14.525,-18.2) 171(14.525,-17.8) 172(14.525,-17.4) 173(14.525,-17) 174(14.525,-16.6) 175(14.525,-16.2) 176(14.525,-15.8) 177(14.525,-15.4) 178(14.525,-15) 179(14.525,-14.6) 180(14.525,-14.2) 181(14.525,-13.8) 182(14.525,-13.4) 183(14.525,-13) 184(14.525,-12.6) 185(14.525,-12.2) 186(14.525,-11.8) 187(14.525,-11.4) 188(14.525,-11) 189(14.525,-10.6) 190(14.525,-10.2) 191(14.525,-9.8) 192(14.525,-9.4) 193(14.525,-9) 194(14.525,-8.6) 195(14.525,-8.2) 196(14.525,-7.8) 197(14.525,-7.4) 198(14.525,-7) 199(14.525,-6.6) 200(14.525,-6.2) 201(14.525,-5.8) 202(14.525,-5.4) 203(14.525,-5) 204(14.525,-4.6) 205(14.525,-4.2) 206(14.525,-3.8) 207(14.525,-3.4) 208(14.525,-3) 209(14.525,-2.6) 210(14.525,-2.2) 211(14.525,-1.8) 212(14.525,-1.4) 213(14.525,-1) 214(14.525,-0.6) 215(14.525,-0.2) 216(14.525,0.2) 217(14.525,0.6) 218(14.525,1) 219(14.525,1.4) 220(14.525,1.8) 221(14.525,2.2) 222(14.525,2.6) 223(14.525,3) 224(14.525,3.4) 225(14.525,3.8) 226(14.525,4.2) 227(14.525,4.6) 228(14.525,5) 229(14.525,5.4) 230(14.525,5.8) 231(14.525,6.2) 232(14.525,6.6) 233(14.525,7) 234(14.525,7.4) 235(14.525,7.8) 236(14.525,8.2) 237(14.525,8.6) 238(14.525,9) 239(14.525,9.4) 240(14.525,9.8) 241(14.525,10.2) 242(14.525,10.6) 243(14.525,11) 244(14.525,11.4) 245(14.525,11.8) 246(14.525,12.2) 247(14.525,12.6) 248(14.525,13) 249(14.525,13.4) 250(14.525,13.8) 251(14.525,14.2) 252(14.525,14.6) 253(14.525,15) 254(14.525,15.4) 255(14.525,15.8) 256(14.525,16.2) 257(14.525,16.6) 258(14.525,17) 259(14.525,17.4) 260(14.525,17.8) 261(14.525,18.2) 262(14.525,18.6) 263(14.525,19) 264(14.525,19.4)
  oval 0.2x1.55 smd: 99(-13.4,-20.525) 100(-13,-20.525) 101(-12.6,-20.525) 102(-12.2,-20.525) 103(-11.8,-20.525) 104(-11.4,-20.525) 105(-11,-20.525) 106(-10.6,-20.525) 107(-10.2,-20.525) 108(-9.8,-20.525) 109(-9.4,-20.525) 110(-9,-20.525) 111(-8.6,-20.525) 112(-8.2,-20.525) 113(-7.8,-20.525) 114(-7.4,-20.525) 115(-7,-20.525) 116(-6.6,-20.525) 117(-6.2,-20.525) 118(-5.8,-20.525) 119(-5.4,-20.525) 120(-5,-20.525) 121(-4.6,-20.525) 122(-4.2,-20.525) 123(-3.8,-20.525) 124(-3.4,-20.525) 125(-3,-20.525) 126(-2.6,-20.525) 127(-2.2,-20.525) 128(-1.8,-20.525) 129(-1.4,-20.525) 130(-1,-20.525) 131(-0.6,-20.525) 132(-0.2,-20.525) 133(0.2,-20.525) 134(0.6,-20.525) 135(1,-20.525) 136(1.4,-20.525) 137(1.8,-20.525) 138(2.2,-20.525) 139(2.6,-20.525) 140(3,-20.525) 141(3.4,-20.525) 142(3.8,-20.525) 143(4.2,-20.525) 144(4.6,-20.525) 145(5,-20.525) 146(5.4,-20.525) 147(5.8,-20.525) 148(6.2,-20.525) 149(6.6,-20.525) 150(7,-20.525) 151(7.4,-20.525) 152(7.8,-20.525) 153(8.2,-20.525) 154(8.6,-20.525) 155(9,-20.525) 156(9.4,-20.525) 157(9.8,-20.525) 158(10.2,-20.525) 159(10.6,-20.525) 160(11,-20.525) 161(11.4,-20.525) 162(11.8,-20.525) 163(12.2,-20.525) 164(12.6,-20.525) 165(13,-20.525) 166(13.4,-20.525) 265(13.4,20.525) 266(13,20.525) 267(12.6,20.525) 268(12.2,20.525) 269(11.8,20.525) 270(11.4,20.525) 271(11,20.525) 272(10.6,20.525) 273(10.2,20.525) 274(9.8,20.525) 275(9.4,20.525) 276(9,20.525) 277(8.6,20.525) 278(8.2,20.525) 279(7.8,20.525) 280(7.4,20.525) 281(7,20.525) 282(6.6,20.525) 283(6.2,20.525) 284(5.8,20.525) 285(5.4,20.525) 286(5,20.525) 287(4.6,20.525) 288(4.2,20.525) 289(3.8,20.525) 290(3.4,20.525) 291(3,20.525) 292(2.6,20.525) 293(2.2,20.525) 294(1.8,20.525) 295(1.4,20.525) 296(1,20.525) 297(0.6,20.525) 298(0.2,20.525) 299(-0.2,20.525) 300(-0.6,20.525) 301(-1,20.525) 302(-1.4,20.525) 303(-1.8,20.525) 304(-2.2,20.525) 305(-2.6,20.525) 306(-3,20.525) 307(-3.4,20.525) 308(-3.8,20.525) 309(-4.2,20.525) 310(-4.6,20.525) 311(-5,20.525) 312(-5.4,20.525) 313(-5.8,20.525) 314(-6.2,20.525) 315(-6.6,20.525) 316(-7,20.525) 317(-7.4,20.525) 318(-7.8,20.525) 319(-8.2,20.525) 320(-8.6,20.525) 321(-9,20.525) 322(-9.4,20.525) 323(-9.8,20.525) 324(-10.2,20.525) 325(-10.6,20.525) 326(-11,20.525) 327(-11.4,20.525) 328(-11.8,20.525) 329(-12.2,20.525) 330(-12.6,20.525) 331(-13,20.525) 332(-13.4,20.525)
Top Overlay:
  circle w0.6: c-12.35,18.35 r0.3
  circle w0.25: c-14.525,20.05 r0.125
  lines w0.2: -13.35,-19.35 13.35,-19.35 13.35,19.35 -13.35,19.35 -13.35,-19.35
Mechanical 13:
  circle w0.1: c-13.1,19.1 r0.5
  lines w0.1: -14,-20 14,-20 14,20 -14,20 -14,-20
Mechanical 15:
  lines w0.1: -0.5,0 0.5,0 ; 0,-0.5 0,0.5 ; -15.4,-21.4 15.4,-21.4 15.4,21.4 -15.4,21.4 -15.4,-21.4
3D body: height 4.2, standoff 0, extent -14,-20 14,20